# EAGLE library part LED-RGB-10W (library Protofusion)
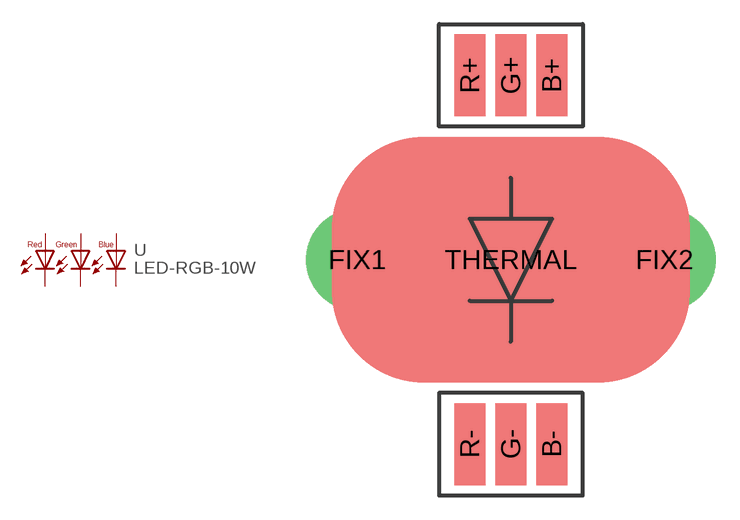
[diagram p3: symbol with the pads of LED-SMD-10W-DX; footprint LED-SMD-10W-DX]

Designator prefix -

## LED-RGB-10WPAD  [LED-SMD-10W-DX]
B+  B+  pas
B-  B-  pas
G+  G+  pas
G-  G-  pas
R+  R+  pas
R-  R-  pas

## Footprint LED-SMD-10W-DX (pad centres in mm)
smd 1.905 x 5.08: B+ 2.54,11.43; B- 2.54,-11.43; G+ 0,11.43; G- 0,-11.43; R+ -2.54,11.43; R- -2.54,-11.43
drill 2.286 pad 6.35: FIX1 -9.525,0; FIX2 9.525,0
smd 22.225 x 15.24: THERMAL 0,0